# EAGLE library part MF_ (library crystal)
CRYSTAL FILTERS Source: http://www.presto.co.uk
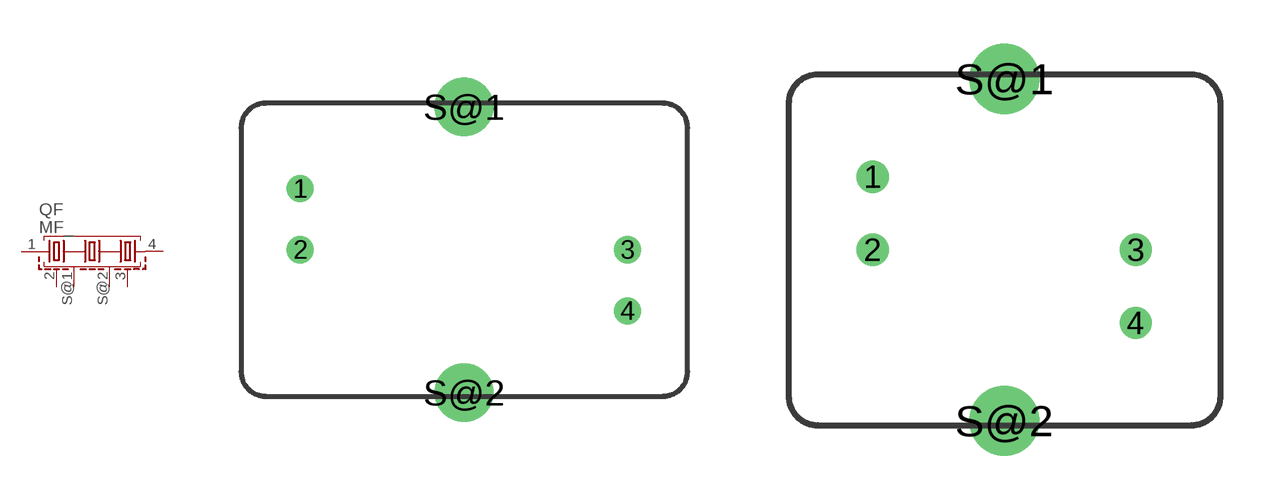
[diagram p0: symbol with the pads of SC-4; footprints SC-4, SC-3]

Designator prefix QF

## MF_10.7-12D (OC_FARNELL: unknown; OC_NEWARK: unknown)  [SC-4]
1  1  pas
2  2  pas
3  3  pas
4  4  pas
S@1  S  pas
S@2  S  pas

## MF_10.7-12C (OC_FARNELL: unknown; OC_NEWARK: unknown)  [SC-3]
Pads as for SC-4

## Footprint SC-4 (pad centres in mm)
CRYSTAL FILTERS Source: http://www.presto.co.uk
drill 0.6 pad 1.016: 1 -6.7,2.5; 2 -6.7,0; 3 6.7,0; 4 6.7,-2.5
drill 1.6 pad 1.93: S@1 0,5.85; S@2 0,-5.85

## Footprint SC-3 (pad centres in mm)
CRYSTAL FILTERS Source: http://www.presto.co.uk
drill 0.6 pad 1.016: 1 -4.5,2.5; 2 -4.5,0; 3 4.5,0; 4 4.5,-2.5
drill 1.6 pad 1.93: S@1 0,5.85; S@2 0,-5.85